# Altium schematic symbol library microsd.SchLib: 1 symbol
Pins are listed as number, name and electrical type; pins without a type are passive.

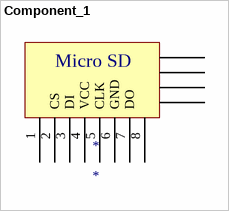
[diagram p0: symbol Component_1]

## Component_1
designator *
footprint microsd; pin to pad 9>G1 10>G2 11>G3 12>G4
pins: 1, 2 CS, 3 DI, 4 VCC, 5 CLK, 6 GND, 7 DO, 8, 9, 10, 11, 12
text: Micro SD